# Altium schematic symbol library SIMCOM.SchLib: 1 symbol
Pins are listed as number, name and electrical type; pins without a type are passive.

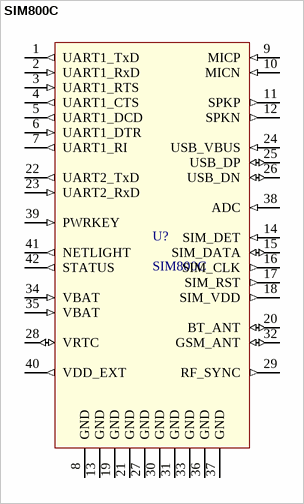
[diagram p0: symbol SIM800C]

## SIM800C
designator U?
footprint SIM800C
pins: 1 UART1_TxD (out), 2 UART1_RxD (in), 3 UART1_RTS (in), 4 UART1_CTS (out), 5 UART1_DCD (out), 6 UART1_DTR (in), 7 UART1_RI (out), 8 GND, 9 MICP (in), 10 MICN (in), 11 SPKP (out), 12 SPKN (out), 13 GND, 14 SIM_DET (in), 15 SIM_DATA (io), 16 SIM_CLK (out), 17 SIM_RST (out), 18 SIM_VDD (out), 19 GND, 20 BT_ANT (io), 21 GND, 22 UART2_TxD (out), 23 UART2_RxD (in), 24 USB_VBUS (in), 25 USB_DP (io), 26 USB_DN (io), 27 GND, 28 VRTC (io), 29 RF_SYNC (out), 30 GND, 31 GND, 32 GSM_ANT (io), 33 GND, 34 VBAT (in), 35 VBAT (in), 36 GND, 37 GND, 38 ADC (in), 39 PWRKEY (in), 40 VDD_EXT (out), 41 NETLIGHT (out), 42 STATUS (out)